# Altium footprint library LT-ST-3-SOT-223_M.PcbLib: 1 footprints
Each footprint in its own frame and in the unit in brackets; x right, y up, seen from the top. Pads: shape width x height; smd on the part's side, far side on the other; paste and mask are expansions set on the pad; w line width, h text height; cw(c..) or ccw(c..) is an arc to the next point about the centre after c.
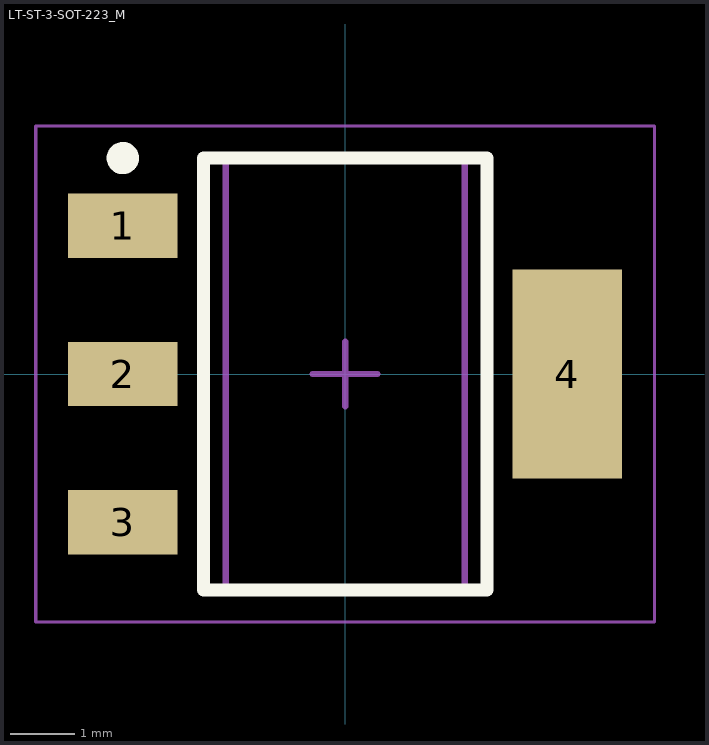
[diagram p0: the footprint, top view; thin cyan lines are the x and y axes]

## LT-ST-3-SOT-223_M [mm] "SOT223, 4-Leads, Body 6.505x3.505mm, Pitch 2.3mm, IPC Low Density"
height 1.8
pads (4):
  rect 1.7x1 smd: 1(-3.45,2.3) 2(-3.45,0) 3(-3.45,-2.3)
  rect 1.7x3.25 smd: 4(3.45,0)
Top Overlay:
  circle w0.25: c-3.45,3.35 r0.125
  lines w0.2: -2.2,-3.35 -2.2,3.35 2.2,3.35 2.2,-3.35 -2.2,-3.35
Mechanical 13:
  lines w0.1: -1.855,-3.355 -1.855,3.355 1.855,3.355 1.855,-3.355 -1.855,-3.355
Mechanical 15:
  lines w0.05: -4.8,-3.85 -4.8,3.85 4.8,3.85 4.8,-3.85 -4.8,-3.85
  lines w0.1: -0.5,0 0.5,0 ; 0,-0.5 0,0.5
3D body: height 1.8, standoff 0.02, extent -1.855,-3.355 1.855,3.355